# Altium footprint library 排针-排母.PcbLib: 177 footprints (part 11 of 12)
Each footprint in its own frame and in the unit in brackets; x right, y up, seen from the top. Pads: shape width x height; smd on the part's side, far side on the other; paste and mask are expansions set on the pad; w line width, h text height; cw(c..) or ccw(c..) is an arc to the next point about the centre after c.
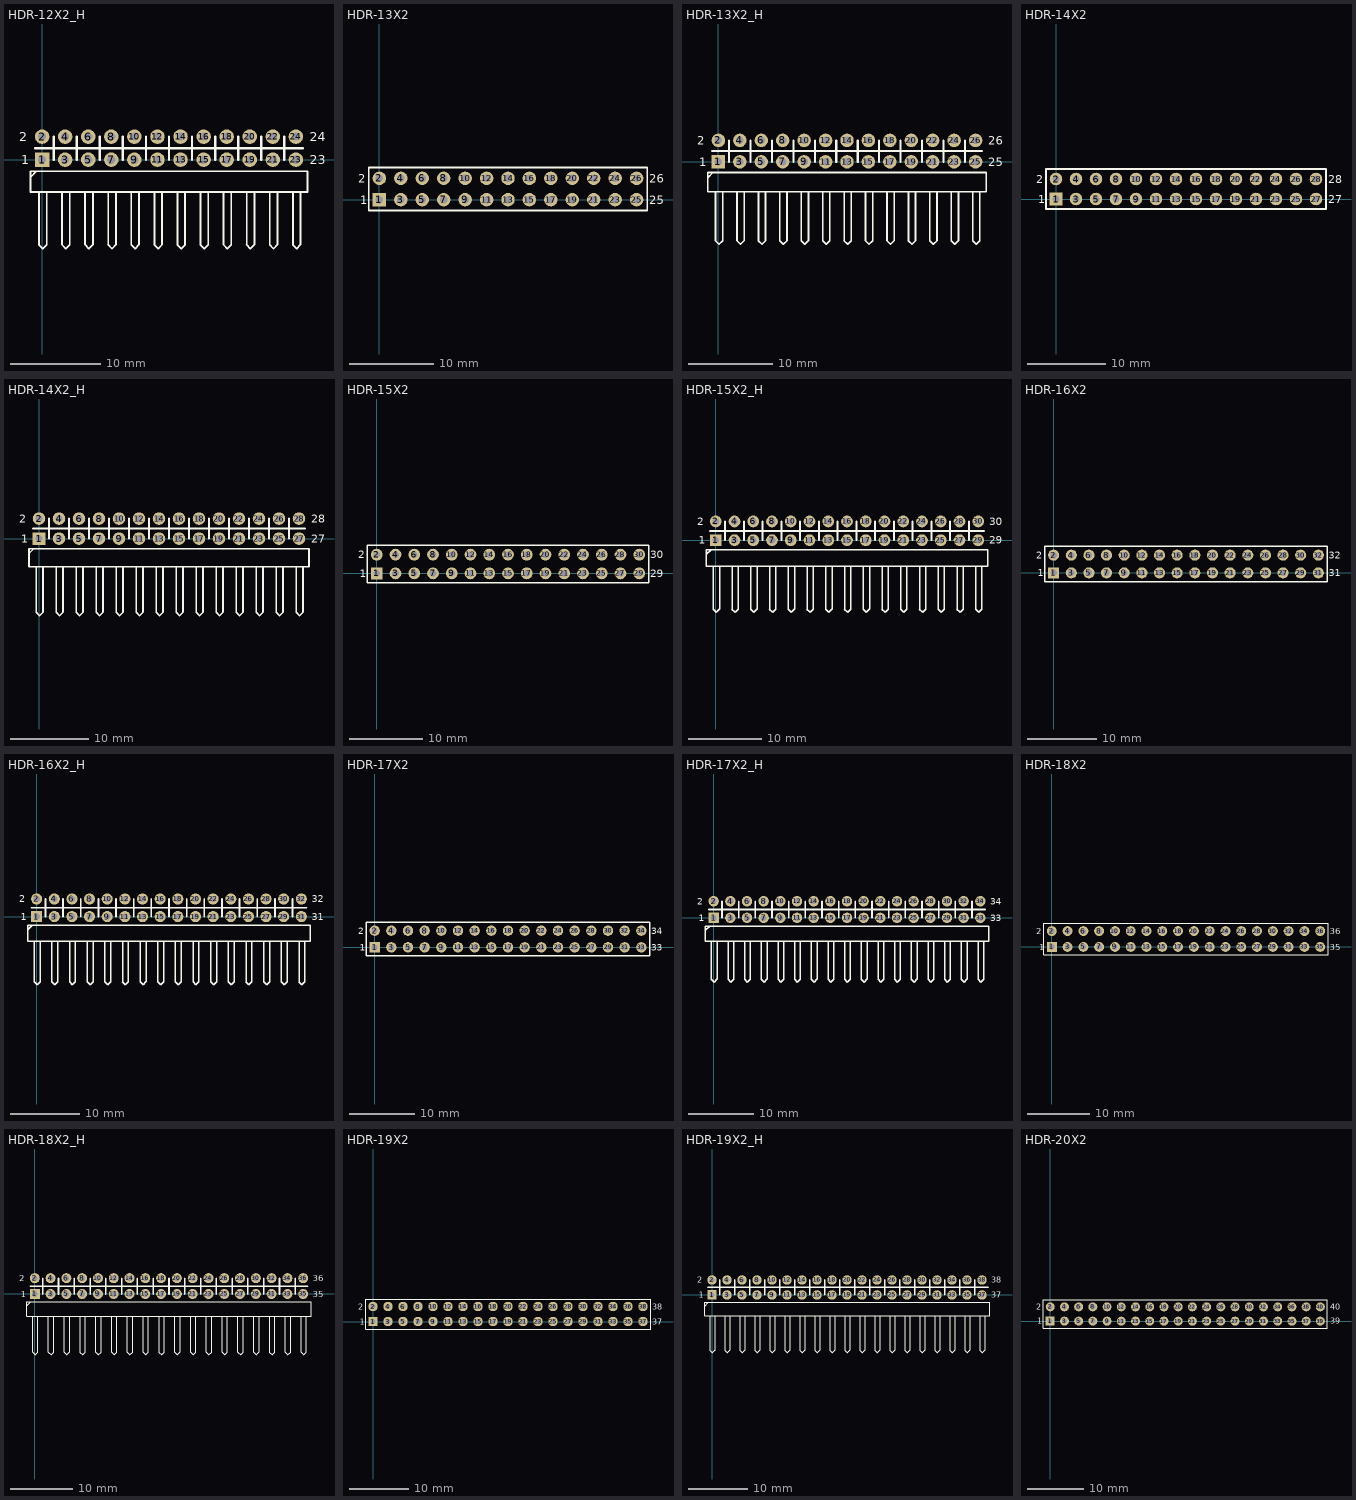
[diagram p10: the footprints below, top view; thin cyan lines are the x and y axes]

## HDR-12X2_H [mm] "双排弯脚排针，12x2脚"
pads (24):
  rect 1.6x1.6 hole 0.9: 1(0,0)
  round 1.6 hole 0.9: 2(0,2.54) 3(2.54,0) 4(2.54,2.54) 5(5.08,0) 6(5.08,2.54) 7(7.62,0) 8(7.62,2.54) 9(10.16,0) 10(10.16,2.54) 11(12.7,0) 12(12.7,2.54) 13(15.24,0) 14(15.24,2.54) 15(17.78,0) 16(17.78,2.54) 17(20.32,0) 18(20.32,2.54) 19(22.86,0) 20(22.86,2.54) 21(25.4,0) 22(25.4,2.54) 23(27.94,0) 24(27.94,2.54)
Top Overlay:
  lines w0.2: -1.27,-1.905 -0.635,-1.27 ; -0.348,-9.364 0.075,-9.787 0.499,-9.364 0.508,-9.355 0.508,-3.556 ; -0.339,-9.364 -0.339,-3.556 ; 2.192,-9.364 2.615,-9.787 3.039,-9.364 ; 2.201,-9.364 2.201,-3.556 ; 3.048,-9.364 3.048,-3.556 ; 4.732,-9.364 5.155,-9.787 5.579,-9.364 ; 4.741,-9.364 4.741,-3.556 ; 5.588,-9.364 5.588,-3.556 ; 7.272,-9.364 7.695,-9.787 8.119,-9.364 ; 7.281,-9.364 7.281,-3.556 ; 8.128,-9.364 8.128,-3.556 ; 9.812,-9.364 10.235,-9.787 10.659,-9.364 ; 9.821,-9.364 9.821,-3.556 ; 10.668,-9.364 10.668,-3.556 ; 12.352,-9.364 12.775,-9.787 13.199,-9.364 ; 12.361,-9.364 12.361,-3.556 ; 13.208,-9.364 13.208,-3.556 ; 14.892,-9.364 15.315,-9.787 15.739,-9.364 ; 14.901,-9.364 14.901,-3.556 ; 15.748,-9.364 15.748,-3.556 ; 17.432,-9.364 17.855,-9.787 18.279,-9.364 ; 17.441,-9.364 17.441,-3.556 ; 18.288,-9.364 18.288,-3.556 ; 19.972,-9.364 20.395,-9.787 20.819,-9.364 ; 19.981,-9.364 19.981,-3.556 ; 20.828,-9.364 20.828,-3.556 ; 22.512,-9.364 22.935,-9.787 23.359,-9.364 ; 22.521,-9.364 22.521,-3.556 ; 23.368,-9.364 23.368,-3.556 ; 25.052,-9.364 25.475,-9.787 25.899,-9.364 ; 25.061,-9.364 25.061,-3.556 ; 25.908,-9.364 25.908,-3.556 ; 27.592,-9.364 28.015,-9.787 28.439,-9.364 ; 27.601,-9.364 27.601,-3.556 ; 28.448,-9.364 28.448,-3.556 ; -1.27,-3.556 29.21,-3.556 29.21,-1.27 -1.27,-1.27 -1.27,-3.556
  lines w0.254: -0.762,1.27 28.702,1.27 ; 1.27,0 1.27,2.54 ; 3.81,0 3.81,2.54 ; 6.35,0 6.35,2.54 ; 8.89,0 8.89,2.54 ; 11.43,0 11.43,2.54 ; 13.97,0 13.97,2.54 ; 16.51,0 16.51,2.54 ; 19.05,0 19.05,2.54 ; 21.59,0 21.59,2.54 ; 24.13,0 24.13,2.54 ; 26.67,0 26.67,2.54
  text "24" at 29.464,2.032 h1.02
  text "23" at 29.464,-0.508 h1.02
  text "2" at -2.54,2.032 h1.02
  text "1" at -2.286,-0.508 h1.02
Bottom Overlay:
  lines w0.254: -0.762,1.27 28.702,1.27 ; 1.27,0 1.27,2.54 ; 3.81,0 3.81,2.54 ; 6.35,0 6.35,2.54 ; 8.89,0 8.89,2.54 ; 11.43,0 11.43,2.54 ; 13.97,0 13.97,2.54 ; 16.51,0 16.51,2.54 ; 19.05,0 19.05,2.54 ; 21.59,0 21.59,2.54 ; 24.13,0 24.13,2.54 ; 26.67,0 26.67,2.54
3D body: height 5.1, standoff -3, extent 8.89,-9.96 11.43,2.89
3D body: height 5.1, standoff -3, extent 3.81,-9.96 6.35,2.89
3D body: height 5.1, standoff -3, extent 6.35,-9.96 8.89,2.89
3D body: height 5.1, standoff -3, extent -1.27,-9.96 1.27,2.89
3D body: height 5.1, standoff -3, extent 1.27,-9.96 3.81,2.89
3D body: height 5.1, standoff -3, extent 21.59,-9.96 24.13,2.89
3D body: height 5.1, standoff -3, extent 16.51,-9.96 19.05,2.89
3D body: height 5.1, standoff -3, extent 19.05,-9.96 21.59,2.89
3D body: height 5.1, standoff -3, extent 11.43,-9.96 13.97,2.89
3D body: height 5.1, standoff -3, extent 13.97,-9.96 16.51,2.89
3D body: height 5.1, standoff -3, extent 24.13,-9.96 26.67,2.89
3D body: height 5.1, standoff -3, extent 26.67,-9.96 29.21,2.89

## HDR-13X2 [mm] "双排排针，13x2脚"
pads (26):
  rect 1.6x1.6 hole 0.9: 1(0,0)
  round 1.6 hole 0.9: 2(0,2.54) 3(2.54,0) 4(2.54,2.54) 5(5.08,0) 6(5.08,2.54) 7(7.62,0) 8(7.62,2.54) 9(10.16,0) 10(10.16,2.54) 11(12.7,0) 12(12.7,2.54) 13(15.24,0) 14(15.24,2.54) 15(17.78,0) 16(17.78,2.54) 17(20.32,0) 18(20.32,2.54) 19(22.86,0) 20(22.86,2.54) 21(25.4,0) 22(25.4,2.54) 23(27.94,0) 24(27.94,2.54) 25(30.48,0) 26(30.48,2.54)
Top Overlay:
  lines w0.2: -1.27,-1.27 31.75,-1.27 31.75,3.81 -1.27,3.81 -1.27,-1.27
  text "26" at 32.004,2.032 h1.02
  text "25" at 32.004,-0.508 h1.02
  text "1" at -2.286,-0.508 h1.02
  text "2" at -2.54,2.032 h1.02
3D body: height 8.5, standoff -3, extent 29.21,-1.27 31.75,3.81
3D body: height 8.5, standoff -3, extent 24.13,-1.27 26.67,3.81
3D body: height 8.5, standoff -3, extent 26.67,-1.27 29.21,3.81
3D body: height 8.5, standoff -3, extent 16.51,-1.27 19.05,3.81
3D body: height 8.5, standoff -3, extent 19.05,-1.27 21.59,3.81
3D body: height 8.5, standoff -3, extent 11.43,-1.27 13.97,3.81
3D body: height 8.5, standoff -3, extent 13.97,-1.27 16.51,3.81
3D body: height 8.5, standoff -3, extent 21.59,-1.27 24.13,3.81
3D body: height 8.5, standoff -3, extent 3.81,-1.27 6.35,3.81
3D body: height 8.5, standoff -3, extent 6.35,-1.27 8.89,3.81
3D body: height 8.5, standoff -3, extent -1.27,-1.27 1.27,3.81
3D body: height 8.5, standoff -3, extent 1.27,-1.27 3.81,3.81
3D body: height 8.5, standoff -3, extent 8.89,-1.27 11.43,3.81

## HDR-13X2_H [mm] "双排弯脚排针，13x2脚"
pads (26):
  rect 1.6x1.6 hole 0.9: 1(0,0)
  round 1.6 hole 0.9: 2(0,2.54) 3(2.54,0) 4(2.54,2.54) 5(5.08,0) 6(5.08,2.54) 7(7.62,0) 8(7.62,2.54) 9(10.16,0) 10(10.16,2.54) 11(12.7,0) 12(12.7,2.54) 13(15.24,0) 14(15.24,2.54) 15(17.78,0) 16(17.78,2.54) 17(20.32,0) 18(20.32,2.54) 19(22.86,0) 20(22.86,2.54) 21(25.4,0) 22(25.4,2.54) 23(27.94,0) 24(27.94,2.54) 25(30.48,0) 26(30.48,2.54)
Top Overlay:
  lines w0.2: -1.27,-1.905 -0.635,-1.27 ; -0.348,-9.364 0.075,-9.787 0.499,-9.364 0.508,-9.355 0.508,-3.556 ; -0.339,-9.364 -0.339,-3.556 ; 2.192,-9.364 2.615,-9.787 3.039,-9.364 ; 2.201,-9.364 2.201,-3.556 ; 3.048,-9.364 3.048,-3.556 ; 4.732,-9.364 5.155,-9.787 5.579,-9.364 ; 4.741,-9.364 4.741,-3.556 ; 5.588,-9.364 5.588,-3.556 ; 7.272,-9.364 7.695,-9.787 8.119,-9.364 ; 7.281,-9.364 7.281,-3.556 ; 8.128,-9.364 8.128,-3.556 ; 9.812,-9.364 10.235,-9.787 10.659,-9.364 ; 9.821,-9.364 9.821,-3.556 ; 10.668,-9.364 10.668,-3.556 ; 12.352,-9.364 12.775,-9.787 13.199,-9.364 ; 12.361,-9.364 12.361,-3.556 ; 13.208,-9.364 13.208,-3.556 ; 14.892,-9.364 15.315,-9.787 15.739,-9.364 ; 14.901,-9.364 14.901,-3.556 ; 15.748,-9.364 15.748,-3.556 ; 17.432,-9.364 17.855,-9.787 18.279,-9.364 ; 17.441,-9.364 17.441,-3.556 ; 18.288,-9.364 18.288,-3.556 ; 19.972,-9.364 20.395,-9.787 20.819,-9.364 ; 19.981,-9.364 19.981,-3.556 ; 20.828,-9.364 20.828,-3.556 ; 22.512,-9.364 22.935,-9.787 23.359,-9.364 ; 22.521,-9.364 22.521,-3.556 ; 23.368,-9.364 23.368,-3.556 ; 25.052,-9.364 25.475,-9.787 25.899,-9.364 ; 25.061,-9.364 25.061,-3.556 ; 25.908,-9.364 25.908,-3.556 ; 27.592,-9.364 28.015,-9.787 28.439,-9.364 ; 27.601,-9.364 27.601,-3.556 ; 28.448,-9.364 28.448,-3.556 ; 30.132,-9.364 30.555,-9.787 30.979,-9.364 ; 30.141,-9.364 30.141,-3.556 ; 30.988,-9.364 30.988,-3.556 ; -1.27,-3.556 31.75,-3.556 31.75,-1.27 -1.27,-1.27 -1.27,-3.556
  lines w0.254: -0.762,1.27 31.242,1.27 ; 1.27,0 1.27,2.54 ; 3.81,0 3.81,2.54 ; 6.35,0 6.35,2.54 ; 8.89,0 8.89,2.54 ; 11.43,0 11.43,2.54 ; 13.97,0 13.97,2.54 ; 16.51,0 16.51,2.54 ; 19.05,0 19.05,2.54 ; 21.59,0 21.59,2.54 ; 24.13,0 24.13,2.54 ; 26.67,0 26.67,2.54 ; 29.21,0 29.21,2.54
  text "26" at 32.004,2.032 h1.02
  text "25" at 32.004,-0.508 h1.02
  text "1" at -2.286,-0.508 h1.02
  text "2" at -2.54,2.032 h1.02
Bottom Overlay:
  lines w0.254: -0.762,1.27 31.242,1.27 ; 1.27,0 1.27,2.54 ; 3.81,0 3.81,2.54 ; 6.35,0 6.35,2.54 ; 8.89,0 8.89,2.54 ; 11.43,0 11.43,2.54 ; 13.97,0 13.97,2.54 ; 16.51,0 16.51,2.54 ; 19.05,0 19.05,2.54 ; 21.59,0 21.59,2.54 ; 24.13,0 24.13,2.54 ; 26.67,0 26.67,2.54 ; 29.21,0 29.21,2.54
3D body: height 5.1, standoff -3, extent 8.89,-9.96 11.43,2.89
3D body: height 5.1, standoff -3, extent 3.81,-9.96 6.35,2.89
3D body: height 5.1, standoff -3, extent 6.35,-9.96 8.89,2.89
3D body: height 5.1, standoff -3, extent -1.27,-9.96 1.27,2.89
3D body: height 5.1, standoff -3, extent 1.27,-9.96 3.81,2.89
3D body: height 5.1, standoff -3, extent 21.59,-9.96 24.13,2.89
3D body: height 5.1, standoff -3, extent 16.51,-9.96 19.05,2.89
3D body: height 5.1, standoff -3, extent 19.05,-9.96 21.59,2.89
3D body: height 5.1, standoff -3, extent 11.43,-9.96 13.97,2.89
3D body: height 5.1, standoff -3, extent 13.97,-9.96 16.51,2.89
3D body: height 5.1, standoff -3, extent 29.21,-9.96 31.75,2.89
3D body: height 5.1, standoff -3, extent 24.13,-9.96 26.67,2.89
3D body: height 5.1, standoff -3, extent 26.67,-9.96 29.21,2.89

## HDR-14X2 [mm] "双排排针，14x2脚"
pads (28):
  rect 1.6x1.6 hole 0.9: 1(0,0)
  round 1.6 hole 0.9: 2(0,2.54) 3(2.54,0) 4(2.54,2.54) 5(5.08,0) 6(5.08,2.54) 7(7.62,0) 8(7.62,2.54) 9(10.16,0) 10(10.16,2.54) 11(12.7,0) 12(12.7,2.54) 13(15.24,0) 14(15.24,2.54) 15(17.78,0) 16(17.78,2.54) 17(20.32,0) 18(20.32,2.54) 19(22.86,0) 20(22.86,2.54) 21(25.4,0) 22(25.4,2.54) 23(27.94,0) 24(27.94,2.54) 25(30.48,0) 26(30.48,2.54) 27(33.02,0) 28(33.02,2.54)
Top Overlay:
  lines w0.2: -1.27,-1.27 -1.27,3.81 34.29,3.81 34.29,-1.27 -1.27,-1.27
  text "2" at -2.54,2.032 h1.02
  text "1" at -2.286,-0.508 h1.02
  text "27" at 34.544,-0.508 h1.02
  text "28" at 34.544,2.032 h1.02
3D body: height 8.5, standoff -3, extent 8.89,-1.27 11.43,3.81
3D body: height 8.5, standoff -3, extent 1.27,-1.27 3.81,3.81
3D body: height 8.5, standoff -3, extent -1.27,-1.27 1.27,3.81
3D body: height 8.5, standoff -3, extent 6.35,-1.27 8.89,3.81
3D body: height 8.5, standoff -3, extent 3.81,-1.27 6.35,3.81
3D body: height 8.5, standoff -3, extent 21.59,-1.27 24.13,3.81
3D body: height 8.5, standoff -3, extent 13.97,-1.27 16.51,3.81
3D body: height 8.5, standoff -3, extent 11.43,-1.27 13.97,3.81
3D body: height 8.5, standoff -3, extent 19.05,-1.27 21.59,3.81
3D body: height 8.5, standoff -3, extent 16.51,-1.27 19.05,3.81
3D body: height 8.5, standoff -3, extent 26.67,-1.27 29.21,3.81
3D body: height 8.5, standoff -3, extent 24.13,-1.27 26.67,3.81
3D body: height 8.5, standoff -3, extent 31.75,-1.27 34.29,3.81
3D body: height 8.5, standoff -3, extent 29.21,-1.27 31.75,3.81

## HDR-14X2_H [mm] "双排弯脚排针，14x2脚"
pads (28):
  rect 1.6x1.6 hole 0.9: 1(0,0)
  round 1.6 hole 0.9: 2(0,2.54) 3(2.54,0) 4(2.54,2.54) 5(5.08,0) 6(5.08,2.54) 7(7.62,0) 8(7.62,2.54) 9(10.16,0) 10(10.16,2.54) 11(12.7,0) 12(12.7,2.54) 13(15.24,0) 14(15.24,2.54) 15(17.78,0) 16(17.78,2.54) 17(20.32,0) 18(20.32,2.54) 19(22.86,0) 20(22.86,2.54) 21(25.4,0) 22(25.4,2.54) 23(27.94,0) 24(27.94,2.54) 25(30.48,0) 26(30.48,2.54) 27(33.02,0) 28(33.02,2.54)
Top Overlay:
  lines w0.2: -1.27,-1.905 -0.635,-1.27 ; -0.348,-9.364 0.075,-9.787 0.499,-9.364 0.508,-9.355 0.508,-3.556 ; -0.339,-9.364 -0.339,-3.556 ; 2.192,-9.364 2.615,-9.787 3.039,-9.364 ; 2.201,-9.364 2.201,-3.556 ; 3.048,-9.364 3.048,-3.556 ; 4.732,-9.364 5.155,-9.787 5.579,-9.364 ; 4.741,-9.364 4.741,-3.556 ; 5.588,-9.364 5.588,-3.556 ; 7.272,-9.364 7.695,-9.787 8.119,-9.364 ; 7.281,-9.364 7.281,-3.556 ; 8.128,-9.364 8.128,-3.556 ; 9.812,-9.364 10.235,-9.787 10.659,-9.364 ; 9.821,-9.364 9.821,-3.556 ; 10.668,-9.364 10.668,-3.556 ; 12.352,-9.364 12.775,-9.787 13.199,-9.364 ; 12.361,-9.364 12.361,-3.556 ; 13.208,-9.364 13.208,-3.556 ; 14.892,-9.364 15.315,-9.787 15.739,-9.364 ; 14.901,-9.364 14.901,-3.556 ; 15.748,-9.364 15.748,-3.556 ; 17.432,-9.364 17.855,-9.787 18.279,-9.364 ; 17.441,-9.364 17.441,-3.556 ; 18.288,-9.364 18.288,-3.556 ; 19.972,-9.364 20.395,-9.787 20.819,-9.364 ; 19.981,-9.364 19.981,-3.556 ; 20.828,-9.364 20.828,-3.556 ; 22.512,-9.364 22.935,-9.787 23.359,-9.364 ; 22.521,-9.364 22.521,-3.556 ; 23.368,-9.364 23.368,-3.556 ; 25.052,-9.364 25.475,-9.787 25.899,-9.364 ; 25.061,-9.364 25.061,-3.556 ; 25.908,-9.364 25.908,-3.556 ; 27.592,-9.364 28.015,-9.787 28.439,-9.364 ; 27.601,-9.364 27.601,-3.556 ; 28.448,-9.364 28.448,-3.556 ; 30.132,-9.364 30.555,-9.787 30.979,-9.364 ; 30.141,-9.364 30.141,-3.556 ; 30.988,-9.364 30.988,-3.556 ; 32.672,-9.364 33.095,-9.787 33.519,-9.364 ; 32.681,-9.364 32.681,-3.556 ; 33.528,-9.364 33.528,-3.556 ; -1.27,-3.556 -1.27,-1.27 34.29,-1.27 34.29,-3.556 -1.27,-3.556
  lines w0.254: -0.762,1.27 33.782,1.27 ; 1.27,0 1.27,2.54 ; 3.81,0 3.81,2.54 ; 6.35,0 6.35,2.54 ; 8.89,0 8.89,2.54 ; 11.43,0 11.43,2.54 ; 13.97,0 13.97,2.54 ; 16.51,0 16.51,2.54 ; 19.05,0 19.05,2.54 ; 21.59,0 21.59,2.54 ; 24.13,0 24.13,2.54 ; 26.67,0 26.67,2.54 ; 29.21,0 29.21,2.54 ; 31.75,0 31.75,2.54
  text "28" at 34.544,2.032 h1.02
  text "27" at 34.544,-0.508 h1.02
  text "1" at -2.286,-0.508 h1.02
  text "2" at -2.54,2.032 h1.02
Bottom Overlay:
  lines w0.254: -0.762,1.27 33.782,1.27 ; 1.27,0 1.27,2.54 ; 3.81,0 3.81,2.54 ; 6.35,0 6.35,2.54 ; 8.89,0 8.89,2.54 ; 11.43,0 11.43,2.54 ; 13.97,0 13.97,2.54 ; 16.51,0 16.51,2.54 ; 19.05,0 19.05,2.54 ; 21.59,0 21.59,2.54 ; 24.13,0 24.13,2.54 ; 26.67,0 26.67,2.54 ; 29.21,0 29.21,2.54 ; 31.75,0 31.75,2.54
3D body: height 5.1, standoff -3, extent 8.89,-9.96 11.43,2.89
3D body: height 5.1, standoff -3, extent 3.81,-9.96 6.35,2.89
3D body: height 5.1, standoff -3, extent 6.35,-9.96 8.89,2.89
3D body: height 5.1, standoff -3, extent -1.27,-9.96 1.27,2.89
3D body: height 5.1, standoff -3, extent 1.27,-9.96 3.81,2.89
3D body: height 5.1, standoff -3, extent 21.59,-9.96 24.13,2.89
3D body: height 5.1, standoff -3, extent 16.51,-9.96 19.05,2.89
3D body: height 5.1, standoff -3, extent 19.05,-9.96 21.59,2.89
3D body: height 5.1, standoff -3, extent 11.43,-9.96 13.97,2.89
3D body: height 5.1, standoff -3, extent 13.97,-9.96 16.51,2.89
3D body: height 5.1, standoff -3, extent 29.21,-9.96 31.75,2.89
3D body: height 5.1, standoff -3, extent 31.75,-9.96 34.29,2.89
3D body: height 5.1, standoff -3, extent 24.13,-9.96 26.67,2.89
3D body: height 5.1, standoff -3, extent 26.67,-9.96 29.21,2.89

## HDR-15X2 [mm] "双排排针，15x2脚"
pads (30):
  rect 1.6x1.6 hole 0.9: 1(0,0)
  round 1.6 hole 0.9: 2(0,2.54) 3(2.54,0) 4(2.54,2.54) 5(5.08,0) 6(5.08,2.54) 7(7.62,0) 8(7.62,2.54) 9(10.16,0) 10(10.16,2.54) 11(12.7,0) 12(12.7,2.54) 13(15.24,0) 14(15.24,2.54) 15(17.78,0) 16(17.78,2.54) 17(20.32,0) 18(20.32,2.54) 19(22.86,0) 20(22.86,2.54) 21(25.4,0) 22(25.4,2.54) 23(27.94,0) 24(27.94,2.54) 25(30.48,0) 26(30.48,2.54) 27(33.02,0) 28(33.02,2.54) 29(35.56,0) 30(35.56,2.54)
Top Overlay:
  lines w0.2: -1.27,-1.27 -1.27,3.81 36.83,3.81 36.83,-1.27 -1.27,-1.27
  text "30" at 37.084,2.032 h1.02
  text "29" at 37.084,-0.508 h1.02
  text "2" at -2.54,2.032 h1.02
  text "1" at -2.286,-0.508 h1.02
3D body: height 8.5, standoff -3, extent 29.21,-1.27 31.75,3.81
3D body: height 8.5, standoff -3, extent 31.75,-1.27 34.29,3.81
3D body: height 8.5, standoff -3, extent 24.13,-1.27 26.67,3.81
3D body: height 8.5, standoff -3, extent 26.67,-1.27 29.21,3.81
3D body: height 8.5, standoff -3, extent 34.29,-1.27 36.83,3.81
3D body: height 8.5, standoff -3, extent 16.51,-1.27 19.05,3.81
3D body: height 8.5, standoff -3, extent 19.05,-1.27 21.59,3.81
3D body: height 8.5, standoff -3, extent 11.43,-1.27 13.97,3.81
3D body: height 8.5, standoff -3, extent 13.97,-1.27 16.51,3.81
3D body: height 8.5, standoff -3, extent 21.59,-1.27 24.13,3.81
3D body: height 8.5, standoff -3, extent 3.81,-1.27 6.35,3.81
3D body: height 8.5, standoff -3, extent 6.35,-1.27 8.89,3.81
3D body: height 8.5, standoff -3, extent -1.27,-1.27 1.27,3.81
3D body: height 8.5, standoff -3, extent 1.27,-1.27 3.81,3.81
3D body: height 8.5, standoff -3, extent 8.89,-1.27 11.43,3.81

## HDR-15X2_H [mm] "双排弯脚排针，15x2脚"
pads (30):
  rect 1.6x1.6 hole 0.9: 1(0,0)
  round 1.6 hole 0.9: 2(0,2.54) 3(2.54,0) 4(2.54,2.54) 5(5.08,0) 6(5.08,2.54) 7(7.62,0) 8(7.62,2.54) 9(10.16,0) 10(10.16,2.54) 11(12.7,0) 12(12.7,2.54) 13(15.24,0) 14(15.24,2.54) 15(17.78,0) 16(17.78,2.54) 17(20.32,0) 18(20.32,2.54) 19(22.86,0) 20(22.86,2.54) 21(25.4,0) 22(25.4,2.54) 23(27.94,0) 24(27.94,2.54) 25(30.48,0) 26(30.48,2.54) 27(33.02,0) 28(33.02,2.54) 29(35.56,0) 30(35.56,2.54)
Top Overlay:
  lines w0.2: -1.27,-1.905 -0.635,-1.27 ; -0.348,-9.364 0.075,-9.787 0.499,-9.364 0.508,-9.355 0.508,-3.556 ; -0.339,-9.364 -0.339,-3.556 ; 2.192,-9.364 2.615,-9.787 3.039,-9.364 ; 2.201,-9.364 2.201,-3.556 ; 3.048,-9.364 3.048,-3.556 ; 4.732,-9.364 5.155,-9.787 5.579,-9.364 ; 4.741,-9.364 4.741,-3.556 ; 5.588,-9.364 5.588,-3.556 ; 7.272,-9.364 7.695,-9.787 8.119,-9.364 ; 7.281,-9.364 7.281,-3.556 ; 8.128,-9.364 8.128,-3.556 ; 9.812,-9.364 10.235,-9.787 10.659,-9.364 ; 9.821,-9.364 9.821,-3.556 ; 10.668,-9.364 10.668,-3.556 ; 12.352,-9.364 12.775,-9.787 13.199,-9.364 ; 12.361,-9.364 12.361,-3.556 ; 13.208,-9.364 13.208,-3.556 ; 14.892,-9.364 15.315,-9.787 15.739,-9.364 ; 14.901,-9.364 14.901,-3.556 ; 15.748,-9.364 15.748,-3.556 ; 17.432,-9.364 17.855,-9.787 18.279,-9.364 ; 17.441,-9.364 17.441,-3.556 ; 18.288,-9.364 18.288,-3.556 ; 19.972,-9.364 20.395,-9.787 20.819,-9.364 ; 19.981,-9.364 19.981,-3.556 ; 20.828,-9.364 20.828,-3.556 ; 22.512,-9.364 22.935,-9.787 23.359,-9.364 ; 22.521,-9.364 22.521,-3.556 ; 23.368,-9.364 23.368,-3.556 ; 25.052,-9.364 25.475,-9.787 25.899,-9.364 ; 25.061,-9.364 25.061,-3.556 ; 25.908,-9.364 25.908,-3.556 ; 27.592,-9.364 28.015,-9.787 28.439,-9.364 ; 27.601,-9.364 27.601,-3.556 ; 28.448,-9.364 28.448,-3.556 ; 30.132,-9.364 30.555,-9.787 30.979,-9.364 ; 30.141,-9.364 30.141,-3.556 ; 30.988,-9.364 30.988,-3.556 ; 32.672,-9.364 33.095,-9.787 33.519,-9.364 ; 32.681,-9.364 32.681,-3.556 ; 33.528,-9.364 33.528,-3.556 ; 35.212,-9.364 35.635,-9.787 36.059,-9.364 ; 35.221,-9.364 35.221,-3.556 ; 36.068,-9.364 36.068,-3.556 ; -1.27,-3.556 -1.27,-1.27 36.83,-1.27 36.83,-3.556 -1.27,-3.556
  lines w0.254: -0.762,1.27 36.322,1.27 ; 1.27,0 1.27,2.54 ; 3.81,0 3.81,2.54 ; 6.35,0 6.35,2.54 ; 8.89,0 8.89,2.54 ; 11.43,0 11.43,2.54 ; 13.97,0 13.97,2.54 ; 16.51,0 16.51,2.54 ; 19.05,0 19.05,2.54 ; 21.59,0 21.59,2.54 ; 24.13,0 24.13,2.54 ; 26.67,0 26.67,2.54 ; 29.21,0 29.21,2.54 ; 31.75,0 31.75,2.54 ; 34.29,0 34.29,2.54 34.29,0
  text "1" at -2.286,-0.508 h1.02
  text "2" at -2.54,2.032 h1.02
  text "29" at 37.084,-0.508 h1.02
  text "30" at 37.084,2.032 h1.02
Bottom Overlay:
  lines w0.254: -0.762,1.27 36.322,1.27 ; 1.27,0 1.27,2.54 ; 3.81,0 3.81,2.54 ; 6.35,0 6.35,2.54 ; 8.89,0 8.89,2.54 ; 11.43,0 11.43,2.54 ; 13.97,0 13.97,2.54 ; 16.51,0 16.51,2.54 ; 19.05,0 19.05,2.54 ; 21.59,0 21.59,2.54 ; 24.13,0 24.13,2.54 ; 26.67,0 26.67,2.54 ; 29.21,0 29.21,2.54 ; 31.75,0 31.75,2.54 ; 34.29,0 34.29,2.54 34.29,0
3D body: height 5.1, standoff -3, extent 8.89,-9.96 11.43,2.89
3D body: height 5.1, standoff -3, extent 3.81,-9.96 6.35,2.89
3D body: height 5.1, standoff -3, extent 6.35,-9.96 8.89,2.89
3D body: height 5.1, standoff -3, extent -1.27,-9.96 1.27,2.89
3D body: height 5.1, standoff -3, extent 1.27,-9.96 3.81,2.89
3D body: height 5.1, standoff -3, extent 21.59,-9.96 24.13,2.89
3D body: height 5.1, standoff -3, extent 16.51,-9.96 19.05,2.89
3D body: height 5.1, standoff -3, extent 19.05,-9.96 21.59,2.89
3D body: height 5.1, standoff -3, extent 11.43,-9.96 13.97,2.89
3D body: height 5.1, standoff -3, extent 13.97,-9.96 16.51,2.89
3D body: height 5.1, standoff -3, extent 34.29,-9.96 36.83,2.89
3D body: height 5.1, standoff -3, extent 29.21,-9.96 31.75,2.89
3D body: height 5.1, standoff -3, extent 31.75,-9.96 34.29,2.89
3D body: height 5.1, standoff -3, extent 24.13,-9.96 26.67,2.89
3D body: height 5.1, standoff -3, extent 26.67,-9.96 29.21,2.89

## HDR-16X2 [mm] "双排排针，16x2脚"
pads (32):
  rect 1.6x1.6 hole 0.9: 1(0,0)
  round 1.6 hole 0.9: 2(0,2.54) 3(2.54,0) 4(2.54,2.54) 5(5.08,0) 6(5.08,2.54) 7(7.62,0) 8(7.62,2.54) 9(10.16,0) 10(10.16,2.54) 11(12.7,0) 12(12.7,2.54) 13(15.24,0) 14(15.24,2.54) 15(17.78,0) 16(17.78,2.54) 17(20.32,0) 18(20.32,2.54) 19(22.86,0) 20(22.86,2.54) 21(25.4,0) 22(25.4,2.54) 23(27.94,0) 24(27.94,2.54) 25(30.48,0) 26(30.48,2.54) 27(33.02,0) 28(33.02,2.54) 29(35.56,0) 30(35.56,2.54) 31(38.1,0) 32(38.1,2.54)
Top Overlay:
  lines w0.2: -1.27,-1.27 -1.27,3.81 39.37,3.81 39.37,-1.27 -1.27,-1.27
  text "32" at 39.624,2.032 h1.02
  text "31" at 39.624,-0.508 h1.02
  text "1" at -2.286,-0.508 h1.02
  text "2" at -2.54,2.032 h1.02
3D body: height 8.5, standoff -3, extent 36.83,-1.27 39.37,3.81
3D body: height 8.5, standoff -3, extent 29.21,-1.27 31.75,3.81
3D body: height 8.5, standoff -3, extent 31.75,-1.27 34.29,3.81
3D body: height 8.5, standoff -3, extent 24.13,-1.27 26.67,3.81
3D body: height 8.5, standoff -3, extent 26.67,-1.27 29.21,3.81
3D body: height 8.5, standoff -3, extent 34.29,-1.27 36.83,3.81
3D body: height 8.5, standoff -3, extent 16.51,-1.27 19.05,3.81
3D body: height 8.5, standoff -3, extent 19.05,-1.27 21.59,3.81
3D body: height 8.5, standoff -3, extent 11.43,-1.27 13.97,3.81
3D body: height 8.5, standoff -3, extent 13.97,-1.27 16.51,3.81
3D body: height 8.5, standoff -3, extent 21.59,-1.27 24.13,3.81
3D body: height 8.5, standoff -3, extent 3.81,-1.27 6.35,3.81
3D body: height 8.5, standoff -3, extent 6.35,-1.27 8.89,3.81
3D body: height 8.5, standoff -3, extent -1.27,-1.27 1.27,3.81
3D body: height 8.5, standoff -3, extent 1.27,-1.27 3.81,3.81
3D body: height 8.5, standoff -3, extent 8.89,-1.27 11.43,3.81

## HDR-16X2_H [mm] "双排弯脚排针，16x2脚"
pads (32):
  rect 1.6x1.6 hole 0.9: 1(0,0)
  round 1.6 hole 0.9: 2(0,2.54) 3(2.54,0) 4(2.54,2.54) 5(5.08,0) 6(5.08,2.54) 7(7.62,0) 8(7.62,2.54) 9(10.16,0) 10(10.16,2.54) 11(12.7,0) 12(12.7,2.54) 13(15.24,0) 14(15.24,2.54) 15(17.78,0) 16(17.78,2.54) 17(20.32,0) 18(20.32,2.54) 19(22.86,0) 20(22.86,2.54) 21(25.4,0) 22(25.4,2.54) 23(27.94,0) 24(27.94,2.54) 25(30.48,0) 26(30.48,2.54) 27(33.02,0) 28(33.02,2.54) 29(35.56,0) 30(35.56,2.54) 31(38.1,0) 32(38.1,2.54)
Top Overlay:
  lines w0.2: -1.27,-1.905 -0.635,-1.27 ; -0.348,-9.364 0.075,-9.787 0.499,-9.364 0.508,-9.355 0.508,-3.556 ; -0.339,-9.364 -0.339,-3.556 ; 2.192,-9.364 2.615,-9.787 3.039,-9.364 ; 2.201,-9.364 2.201,-3.556 ; 3.048,-9.364 3.048,-3.556 ; 4.732,-9.364 5.155,-9.787 5.579,-9.364 ; 4.741,-9.364 4.741,-3.556 ; 5.588,-9.364 5.588,-3.556 ; 7.272,-9.364 7.695,-9.787 8.119,-9.364 ; 7.281,-9.364 7.281,-3.556 ; 8.128,-9.364 8.128,-3.556 ; 9.812,-9.364 10.235,-9.787 10.659,-9.364 ; 9.821,-9.364 9.821,-3.556 ; 10.668,-9.364 10.668,-3.556 ; 12.352,-9.364 12.775,-9.787 13.199,-9.364 ; 12.361,-9.364 12.361,-3.556 ; 13.208,-9.364 13.208,-3.556 ; 14.892,-9.364 15.315,-9.787 15.739,-9.364 ; 14.901,-9.364 14.901,-3.556 ; 15.748,-9.364 15.748,-3.556 ; 17.432,-9.364 17.855,-9.787 18.279,-9.364 ; 17.441,-9.364 17.441,-3.556 ; 18.288,-9.364 18.288,-3.556 ; 19.972,-9.364 20.395,-9.787 20.819,-9.364 ; 19.981,-9.364 19.981,-3.556 ; 20.828,-9.364 20.828,-3.556 ; 22.512,-9.364 22.935,-9.787 23.359,-9.364 ; 22.521,-9.364 22.521,-3.556 ; 23.368,-9.364 23.368,-3.556 ; 25.052,-9.364 25.475,-9.787 25.899,-9.364 ; 25.061,-9.364 25.061,-3.556 ; 25.908,-9.364 25.908,-3.556 ; 27.592,-9.364 28.015,-9.787 28.439,-9.364 ; 27.601,-9.364 27.601,-3.556 ; 28.448,-9.364 28.448,-3.556 ; 30.132,-9.364 30.555,-9.787 30.979,-9.364 ; 30.141,-9.364 30.141,-3.556 ; 30.988,-9.364 30.988,-3.556 ; 32.672,-9.364 33.095,-9.787 33.519,-9.364 ; 32.681,-9.364 32.681,-3.556 ; 33.528,-9.364 33.528,-3.556 ; 35.212,-9.364 35.635,-9.787 36.059,-9.364 ; 35.221,-9.364 35.221,-3.556 ; 36.068,-9.364 36.068,-3.556 ; 37.752,-9.364 38.175,-9.787 38.599,-9.364 ; 37.761,-9.364 37.761,-3.556 ; 38.608,-9.364 38.608,-3.556 ; -1.27,-3.556 -1.27,-1.27 39.37,-1.27 39.37,-3.556 -1.27,-3.556
  lines w0.254: -0.762,1.27 38.862,1.27 ; 1.27,0 1.27,2.54 ; 3.81,0 3.81,2.54 ; 6.35,0 6.35,2.54 ; 8.89,0 8.89,2.54 ; 11.43,0 11.43,2.54 ; 13.97,0 13.97,2.54 ; 16.51,0 16.51,2.54 ; 19.05,0 19.05,2.54 ; 21.59,0 21.59,2.54 ; 24.13,0 24.13,2.54 ; 26.67,0 26.67,2.54 ; 29.21,0 29.21,2.54 ; 31.75,0 31.75,2.54 ; 36.83,0 36.83,2.54 ; 34.29,0 34.29,2.54 34.29,0
  text "32" at 39.624,2.032 h1.02
  text "31" at 39.624,-0.508 h1.02
  text "1" at -2.286,-0.508 h1.02
  text "2" at -2.54,2.032 h1.02
Bottom Overlay:
  lines w0.254: -0.762,1.27 38.862,1.27 ; 1.27,0 1.27,2.54 ; 3.81,0 3.81,2.54 ; 6.35,0 6.35,2.54 ; 8.89,0 8.89,2.54 ; 11.43,0 11.43,2.54 ; 13.97,0 13.97,2.54 ; 16.51,0 16.51,2.54 ; 19.05,0 19.05,2.54 ; 21.59,0 21.59,2.54 ; 24.13,0 24.13,2.54 ; 26.67,0 26.67,2.54 ; 29.21,0 29.21,2.54 ; 31.75,0 31.75,2.54 ; 36.83,0 36.83,2.54 ; 34.29,0 34.29,2.54 34.29,0
3D body: height 5.1, standoff -3, extent 8.89,-9.96 11.43,2.89
3D body: height 5.1, standoff -3, extent 3.81,-9.96 6.35,2.89
3D body: height 5.1, standoff -3, extent 6.35,-9.96 8.89,2.89
3D body: height 5.1, standoff -3, extent -1.27,-9.96 1.27,2.89
3D body: height 5.1, standoff -3, extent 1.27,-9.96 3.81,2.89
3D body: height 5.1, standoff -3, extent 21.59,-9.96 24.13,2.89
3D body: height 5.1, standoff -3, extent 16.51,-9.96 19.05,2.89
3D body: height 5.1, standoff -3, extent 19.05,-9.96 21.59,2.89
3D body: height 5.1, standoff -3, extent 11.43,-9.96 13.97,2.89
3D body: height 5.1, standoff -3, extent 13.97,-9.96 16.51,2.89
3D body: height 5.1, standoff -3, extent 34.29,-9.96 36.83,2.89
3D body: height 5.1, standoff -3, extent 29.21,-9.96 31.75,2.89
3D body: height 5.1, standoff -3, extent 31.75,-9.96 34.29,2.89
3D body: height 5.1, standoff -3, extent 24.13,-9.96 26.67,2.89
3D body: height 5.1, standoff -3, extent 26.67,-9.96 29.21,2.89
3D body: height 5.1, standoff -3, extent 36.83,-9.96 39.37,2.89

## HDR-17X2 [mm] "双排排针，17x2脚"
pads (34):
  rect 1.6x1.6 hole 0.9: 1(0,0)
  round 1.6 hole 0.9: 2(0,2.54) 3(2.54,0) 4(2.54,2.54) 5(5.08,0) 6(5.08,2.54) 7(7.62,0) 8(7.62,2.54) 9(10.16,0) 10(10.16,2.54) 11(12.7,0) 12(12.7,2.54) 13(15.24,0) 14(15.24,2.54) 15(17.78,0) 16(17.78,2.54) 17(20.32,0) 18(20.32,2.54) 19(22.86,0) 20(22.86,2.54) 21(25.4,0) 22(25.4,2.54) 23(27.94,0) 24(27.94,2.54) 25(30.48,0) 26(30.48,2.54) 27(33.02,0) 28(33.02,2.54) 29(35.56,0) 30(35.56,2.54) 31(38.1,0) 32(38.1,2.54) 33(40.64,0) 34(40.64,2.54)
Top Overlay:
  lines w0.2: -1.27,-1.27 41.91,-1.27 41.91,3.81 -1.27,3.81 -1.27,-1.27
  text "34" at 42.164,2.032 h1.02
  text "33" at 42.164,-0.508 h1.02
  text "1" at -2.286,-0.508 h1.02
  text "2" at -2.54,2.032 h1.02
3D body: height 8.5, standoff -3, extent 8.89,-1.27 11.43,3.81
3D body: height 8.5, standoff -3, extent 1.27,-1.27 3.81,3.81
3D body: height 8.5, standoff -3, extent -1.27,-1.27 1.27,3.81
3D body: height 8.5, standoff -3, extent 6.35,-1.27 8.89,3.81
3D body: height 8.5, standoff -3, extent 3.81,-1.27 6.35,3.81
3D body: height 8.5, standoff -3, extent 21.59,-1.27 24.13,3.81
3D body: height 8.5, standoff -3, extent 13.97,-1.27 16.51,3.81
3D body: height 8.5, standoff -3, extent 11.43,-1.27 13.97,3.81
3D body: height 8.5, standoff -3, extent 19.05,-1.27 21.59,3.81
3D body: height 8.5, standoff -3, extent 16.51,-1.27 19.05,3.81
3D body: height 8.5, standoff -3, extent 34.29,-1.27 36.83,3.81
3D body: height 8.5, standoff -3, extent 26.67,-1.27 29.21,3.81
3D body: height 8.5, standoff -3, extent 24.13,-1.27 26.67,3.81
3D body: height 8.5, standoff -3, extent 31.75,-1.27 34.29,3.81
3D body: height 8.5, standoff -3, extent 29.21,-1.27 31.75,3.81
3D body: height 8.5, standoff -3, extent 39.37,-1.27 41.91,3.81
3D body: height 8.5, standoff -3, extent 36.83,-1.27 39.37,3.81

## HDR-17X2_H [mm] "双排弯脚排针，17x2脚"
pads (34):
  rect 1.6x1.6 hole 0.9: 1(0,0)
  round 1.6 hole 0.9: 2(0,2.54) 3(2.54,0) 4(2.54,2.54) 5(5.08,0) 6(5.08,2.54) 7(7.62,0) 8(7.62,2.54) 9(10.16,0) 10(10.16,2.54) 11(12.7,0) 12(12.7,2.54) 13(15.24,0) 14(15.24,2.54) 15(17.78,0) 16(17.78,2.54) 17(20.32,0) 18(20.32,2.54) 19(22.86,0) 20(22.86,2.54) 21(25.4,0) 22(25.4,2.54) 23(27.94,0) 24(27.94,2.54) 25(30.48,0) 26(30.48,2.54) 27(33.02,0) 28(33.02,2.54) 29(35.56,0) 30(35.56,2.54) 31(38.1,0) 32(38.1,2.54) 33(40.64,0) 34(40.64,2.54)
Top Overlay:
  lines w0.2: -1.27,-1.905 -0.635,-1.27 ; -0.348,-9.364 0.075,-9.787 0.499,-9.364 0.508,-9.355 0.508,-3.556 ; -0.339,-9.364 -0.339,-3.556 ; 2.192,-9.364 2.615,-9.787 3.039,-9.364 ; 2.201,-9.364 2.201,-3.556 ; 3.048,-9.364 3.048,-3.556 ; 4.732,-9.364 5.155,-9.787 5.579,-9.364 ; 4.741,-9.364 4.741,-3.556 ; 5.588,-9.364 5.588,-3.556 ; 7.272,-9.364 7.695,-9.787 8.119,-9.364 ; 7.281,-9.364 7.281,-3.556 ; 8.128,-9.364 8.128,-3.556 ; 9.812,-9.364 10.235,-9.787 10.659,-9.364 ; 9.821,-9.364 9.821,-3.556 ; 10.668,-9.364 10.668,-3.556 ; 12.352,-9.364 12.775,-9.787 13.199,-9.364 ; 12.361,-9.364 12.361,-3.556 ; 13.208,-9.364 13.208,-3.556 ; 14.892,-9.364 15.315,-9.787 15.739,-9.364 ; 14.901,-9.364 14.901,-3.556 ; 15.748,-9.364 15.748,-3.556 ; 17.432,-9.364 17.855,-9.787 18.279,-9.364 ; 17.441,-9.364 17.441,-3.556 ; 18.288,-9.364 18.288,-3.556 ; 19.972,-9.364 20.395,-9.787 20.819,-9.364 ; 19.981,-9.364 19.981,-3.556 ; 20.828,-9.364 20.828,-3.556 ; 22.512,-9.364 22.935,-9.787 23.359,-9.364 ; 22.521,-9.364 22.521,-3.556 ; 23.368,-9.364 23.368,-3.556 ; 25.052,-9.364 25.475,-9.787 25.899,-9.364 ; 25.061,-9.364 25.061,-3.556 ; 25.908,-9.364 25.908,-3.556 ; 27.592,-9.364 28.015,-9.787 28.439,-9.364 ; 27.601,-9.364 27.601,-3.556 ; 28.448,-9.364 28.448,-3.556 ; 30.132,-9.364 30.555,-9.787 30.979,-9.364 ; 30.141,-9.364 30.141,-3.556 ; 30.988,-9.364 30.988,-3.556 ; 32.672,-9.364 33.095,-9.787 33.519,-9.364 ; 32.681,-9.364 32.681,-3.556 ; 33.528,-9.364 33.528,-3.556 ; 35.212,-9.364 35.635,-9.787 36.059,-9.364 ; 35.221,-9.364 35.221,-3.556 ; 36.068,-9.364 36.068,-3.556 ; 37.752,-9.364 38.175,-9.787 38.599,-9.364 ; 37.761,-9.364 37.761,-3.556 ; 38.608,-9.364 38.608,-3.556 ; 40.292,-9.364 40.715,-9.787 41.139,-9.364 ; 40.301,-9.364 40.301,-3.556 ; 41.148,-9.364 41.148,-3.556 ; -1.27,-3.556 41.91,-3.556 41.91,-1.27 -1.27,-1.27 -1.27,-3.556
  lines w0.254: -0.762,1.27 41.402,1.27 ; 1.27,0 1.27,2.54 ; 3.81,0 3.81,2.54 ; 6.35,0 6.35,2.54 ; 8.89,0 8.89,2.54 ; 11.43,0 11.43,2.54 ; 13.97,0 13.97,2.54 ; 16.51,0 16.51,2.54 ; 19.05,0 19.05,2.54 ; 21.59,0 21.59,2.54 ; 24.13,0 24.13,2.54 ; 26.67,0 26.67,2.54 ; 29.21,0 29.21,2.54 ; 31.75,0 31.75,2.54 ; 36.83,0 36.83,2.54 ; 39.37,0 39.37,2.54 ; 34.29,0 34.29,2.54 34.29,0
  text "2" at -2.54,2.032 h1.02
  text "1" at -2.286,-0.508 h1.02
  text "33" at 42.164,-0.508 h1.02
  text "34" at 42.164,2.032 h1.02
Bottom Overlay:
  lines w0.254: -0.762,1.27 41.402,1.27 ; 1.27,0 1.27,2.54 ; 3.81,0 3.81,2.54 ; 6.35,0 6.35,2.54 ; 8.89,0 8.89,2.54 ; 11.43,0 11.43,2.54 ; 13.97,0 13.97,2.54 ; 16.51,0 16.51,2.54 ; 19.05,0 19.05,2.54 ; 21.59,0 21.59,2.54 ; 24.13,0 24.13,2.54 ; 26.67,0 26.67,2.54 ; 29.21,0 29.21,2.54 ; 31.75,0 31.75,2.54 ; 36.83,0 36.83,2.54 ; 39.37,0 39.37,2.54 ; 34.29,0 34.29,2.54 34.29,0
3D body: height 5.1, standoff -3, extent 39.37,-9.96 41.91,2.89
3D body: height 5.1, standoff -3, extent 36.83,-9.96 39.37,2.89
3D body: height 5.1, standoff -3, extent 26.67,-9.96 29.21,2.89
3D body: height 5.1, standoff -3, extent 24.13,-9.96 26.67,2.89
3D body: height 5.1, standoff -3, extent 31.75,-9.96 34.29,2.89
3D body: height 5.1, standoff -3, extent 29.21,-9.96 31.75,2.89
3D body: height 5.1, standoff -3, extent 34.29,-9.96 36.83,2.89
3D body: height 5.1, standoff -3, extent 13.97,-9.96 16.51,2.89
3D body: height 5.1, standoff -3, extent 11.43,-9.96 13.97,2.89
3D body: height 5.1, standoff -3, extent 19.05,-9.96 21.59,2.89
3D body: height 5.1, standoff -3, extent 16.51,-9.96 19.05,2.89
3D body: height 5.1, standoff -3, extent 21.59,-9.96 24.13,2.89
3D body: height 5.1, standoff -3, extent 1.27,-9.96 3.81,2.89
3D body: height 5.1, standoff -3, extent -1.27,-9.96 1.27,2.89
3D body: height 5.1, standoff -3, extent 6.35,-9.96 8.89,2.89
3D body: height 5.1, standoff -3, extent 3.81,-9.96 6.35,2.89
3D body: height 5.1, standoff -3, extent 8.89,-9.96 11.43,2.89

## HDR-18X2 [mm] "双排排针，18x2脚"
pads (36):
  rect 1.6x1.6 hole 0.9: 1(0,0)
  round 1.6 hole 0.9: 2(0,2.54) 3(2.54,0) 4(2.54,2.54) 5(5.08,0) 6(5.08,2.54) 7(7.62,0) 8(7.62,2.54) 9(10.16,0) 10(10.16,2.54) 11(12.7,0) 12(12.7,2.54) 13(15.24,0) 14(15.24,2.54) 15(17.78,0) 16(17.78,2.54) 17(20.32,0) 18(20.32,2.54) 19(22.86,0) 20(22.86,2.54) 21(25.4,0) 22(25.4,2.54) 23(27.94,0) 24(27.94,2.54) 25(30.48,0) 26(30.48,2.54) 27(33.02,0) 28(33.02,2.54) 29(35.56,0) 30(35.56,2.54) 31(38.1,0) 32(38.1,2.54) 33(40.64,0) 34(40.64,2.54) 35(43.18,0) 36(43.18,2.54)
Top Overlay:
  lines w0.2: 3.81,-1.27 -1.27,-1.27 ; -1.27,-1.27 44.45,-1.27 44.45,3.81 -1.27,3.81 -1.27,-1.27
  text "36" at 44.704,2.032 h1.02
  text "35" at 44.704,-0.508 h1.02
  text "1" at -2.032,-0.508 h1.02
  text "2" at -2.54,2.032 h1.02
3D body: height 8.5, standoff -3, extent 8.89,-1.27 11.43,3.81
3D body: height 8.5, standoff -3, extent 1.27,-1.27 3.81,3.81
3D body: height 8.5, standoff -3, extent -1.27,-1.27 1.27,3.81
3D body: height 8.5, standoff -3, extent 6.35,-1.27 8.89,3.81
3D body: height 8.5, standoff -3, extent 3.81,-1.27 6.35,3.81
3D body: height 8.5, standoff -3, extent 21.59,-1.27 24.13,3.81
3D body: height 8.5, standoff -3, extent 13.97,-1.27 16.51,3.81
3D body: height 8.5, standoff -3, extent 11.43,-1.27 13.97,3.81
3D body: height 8.5, standoff -3, extent 19.05,-1.27 21.59,3.81
3D body: height 8.5, standoff -3, extent 16.51,-1.27 19.05,3.81
3D body: height 8.5, standoff -3, extent 34.29,-1.27 36.83,3.81
3D body: height 8.5, standoff -3, extent 26.67,-1.27 29.21,3.81
3D body: height 8.5, standoff -3, extent 24.13,-1.27 26.67,3.81
3D body: height 8.5, standoff -3, extent 31.75,-1.27 34.29,3.81
3D body: height 8.5, standoff -3, extent 29.21,-1.27 31.75,3.81
3D body: height 8.5, standoff -3, extent 39.37,-1.27 41.91,3.81
3D body: height 8.5, standoff -3, extent 36.83,-1.27 39.37,3.81
3D body: height 8.5, standoff -3, extent 41.91,-1.27 44.45,3.81

## HDR-18X2_H [mm] "双排弯脚排针，18x2脚"
pads (36):
  rect 1.6x1.6 hole 0.9: 1(0,0)
  round 1.6 hole 0.9: 2(0,2.54) 3(2.54,0) 4(2.54,2.54) 5(5.08,0) 6(5.08,2.54) 7(7.62,0) 8(7.62,2.54) 9(10.16,0) 10(10.16,2.54) 11(12.7,0) 12(12.7,2.54) 13(15.24,0) 14(15.24,2.54) 15(17.78,0) 16(17.78,2.54) 17(20.32,0) 18(20.32,2.54) 19(22.86,0) 20(22.86,2.54) 21(25.4,0) 22(25.4,2.54) 23(27.94,0) 24(27.94,2.54) 25(30.48,0) 26(30.48,2.54) 27(33.02,0) 28(33.02,2.54) 29(35.56,0) 30(35.56,2.54) 31(38.1,0) 32(38.1,2.54) 33(40.64,0) 34(40.64,2.54) 35(43.18,0) 36(43.18,2.54)
Top Overlay:
  lines w0.2: -1.27,-1.905 -0.635,-1.27 ; -0.348,-9.364 0.075,-9.787 0.499,-9.364 0.508,-9.355 0.508,-3.556 ; -0.339,-9.364 -0.339,-3.556 ; 2.192,-9.364 2.615,-9.787 3.039,-9.364 ; 2.201,-9.364 2.201,-3.556 ; 3.048,-9.364 3.048,-3.556 ; 4.732,-9.364 5.155,-9.787 5.579,-9.364 ; 4.741,-9.364 4.741,-3.556 ; 5.588,-9.364 5.588,-3.556 ; 7.272,-9.364 7.695,-9.787 8.119,-9.364 ; 7.281,-9.364 7.281,-3.556 ; 8.128,-9.364 8.128,-3.556 ; 9.812,-9.364 10.235,-9.787 10.659,-9.364 ; 9.821,-9.364 9.821,-3.556 ; 10.668,-9.364 10.668,-3.556 ; 12.352,-9.364 12.775,-9.787 13.199,-9.364 ; 12.361,-9.364 12.361,-3.556 ; 13.208,-9.364 13.208,-3.556 ; 14.892,-9.364 15.315,-9.787 15.739,-9.364 ; 14.901,-9.364 14.901,-3.556 ; 15.748,-9.364 15.748,-3.556 ; 17.432,-9.364 17.855,-9.787 18.279,-9.364 ; 17.441,-9.364 17.441,-3.556 ; 18.288,-9.364 18.288,-3.556 ; 19.972,-9.364 20.395,-9.787 20.819,-9.364 ; 19.981,-9.364 19.981,-3.556 ; 20.828,-9.364 20.828,-3.556 ; 22.512,-9.364 22.935,-9.787 23.359,-9.364 ; 22.521,-9.364 22.521,-3.556 ; 23.368,-9.364 23.368,-3.556 ; 25.052,-9.364 25.475,-9.787 25.899,-9.364 ; 25.061,-9.364 25.061,-3.556 ; 25.908,-9.364 25.908,-3.556 ; 27.592,-9.364 28.015,-9.787 28.439,-9.364 ; 27.601,-9.364 27.601,-3.556 ; 28.448,-9.364 28.448,-3.556 ; 30.132,-9.364 30.555,-9.787 30.979,-9.364 ; 30.141,-9.364 30.141,-3.556 ; 30.988,-9.364 30.988,-3.556 ; 32.672,-9.364 33.095,-9.787 33.519,-9.364 ; 32.681,-9.364 32.681,-3.556 ; 33.528,-9.364 33.528,-3.556 ; 35.212,-9.364 35.635,-9.787 36.059,-9.364 ; 35.221,-9.364 35.221,-3.556 ; 36.068,-9.364 36.068,-3.556 ; 37.752,-9.364 38.175,-9.787 38.599,-9.364 ; 37.761,-9.364 37.761,-3.556 ; 38.608,-9.364 38.608,-3.556 ; 40.292,-9.364 40.715,-9.787 41.139,-9.364 ; 40.301,-9.364 40.301,-3.556 ; 41.148,-9.364 41.148,-3.556 ; 42.832,-9.364 43.255,-9.787 43.679,-9.364 ; 42.841,-9.364 42.841,-3.556 ; 43.688,-9.364 43.688,-3.556 ; -1.27,-3.556 -1.27,-1.27 44.45,-1.27 44.45,-3.556 -1.27,-3.556
  lines w0.254: -0.762,1.27 43.942,1.27 ; 1.27,0 1.27,2.54 ; 3.81,0 3.81,2.54 ; 6.35,0 6.35,2.54 ; 8.89,0 8.89,2.54 ; 11.43,0 11.43,2.54 ; 13.97,0 13.97,2.54 ; 16.51,0 16.51,2.54 ; 19.05,0 19.05,2.54 ; 21.59,0 21.59,2.54 ; 24.13,0 24.13,2.54 ; 26.67,0 26.67,2.54 ; 29.21,0 29.21,2.54 ; 31.75,0 31.75,2.54 ; 36.83,0 36.83,2.54 ; 39.37,0 39.37,2.54 ; 34.29,0 34.29,2.54 34.29,0 ; 41.91,0 41.91,2.54 41.91,0
  text "36" at 44.704,2.032 h1.02
  text "35" at 44.704,-0.508 h1.02
  text "1" at -2.286,-0.508 h1.02
  text "2" at -2.54,2.032 h1.02
Bottom Overlay:
  lines w0.254: -0.762,1.27 43.942,1.27 ; 1.27,0 1.27,2.54 ; 3.81,0 3.81,2.54 ; 6.35,0 6.35,2.54 ; 8.89,0 8.89,2.54 ; 11.43,0 11.43,2.54 ; 13.97,0 13.97,2.54 ; 16.51,0 16.51,2.54 ; 19.05,0 19.05,2.54 ; 21.59,0 21.59,2.54 ; 24.13,0 24.13,2.54 ; 26.67,0 26.67,2.54 ; 29.21,0 29.21,2.54 ; 31.75,0 31.75,2.54 ; 36.83,0 36.83,2.54 ; 39.37,0 39.37,2.54 ; 34.29,0 34.29,2.54 34.29,0 ; 41.91,0 41.91,2.54 41.91,0
3D body: height 5.1, standoff -3, extent 8.89,-9.96 11.43,2.89
3D body: height 5.1, standoff -3, extent 3.81,-9.96 6.35,2.89
3D body: height 5.1, standoff -3, extent 6.35,-9.96 8.89,2.89
3D body: height 5.1, standoff -3, extent -1.27,-9.96 1.27,2.89
3D body: height 5.1, standoff -3, extent 1.27,-9.96 3.81,2.89
3D body: height 5.1, standoff -3, extent 21.59,-9.96 24.13,2.89
3D body: height 5.1, standoff -3, extent 16.51,-9.96 19.05,2.89
3D body: height 5.1, standoff -3, extent 19.05,-9.96 21.59,2.89
3D body: height 5.1, standoff -3, extent 11.43,-9.96 13.97,2.89
3D body: height 5.1, standoff -3, extent 13.97,-9.96 16.51,2.89
3D body: height 5.1, standoff -3, extent 34.29,-9.96 36.83,2.89
3D body: height 5.1, standoff -3, extent 29.21,-9.96 31.75,2.89
3D body: height 5.1, standoff -3, extent 31.75,-9.96 34.29,2.89
3D body: height 5.1, standoff -3, extent 24.13,-9.96 26.67,2.89
3D body: height 5.1, standoff -3, extent 26.67,-9.96 29.21,2.89
3D body: height 5.1, standoff -3, extent 41.91,-9.96 44.45,2.89
3D body: height 5.1, standoff -3, extent 36.83,-9.96 39.37,2.89
3D body: height 5.1, standoff -3, extent 39.37,-9.96 41.91,2.89

## HDR-19X2 [mm] "双排排针，19x2脚"
pads (38):
  rect 1.6x1.6 hole 0.9: 1(0,0)
  round 1.6 hole 0.9: 2(0,2.54) 3(2.54,0) 4(2.54,2.54) 5(5.08,0) 6(5.08,2.54) 7(7.62,0) 8(7.62,2.54) 9(10.16,0) 10(10.16,2.54) 11(12.7,0) 12(12.7,2.54) 13(15.24,0) 14(15.24,2.54) 15(17.78,0) 16(17.78,2.54) 17(20.32,0) 18(20.32,2.54) 19(22.86,0) 20(22.86,2.54) 21(25.4,0) 22(25.4,2.54) 23(27.94,0) 24(27.94,2.54) 25(30.48,0) 26(30.48,2.54) 27(33.02,0) 28(33.02,2.54) 29(35.56,0) 30(35.56,2.54) 31(38.1,0) 32(38.1,2.54) 33(40.64,0) 34(40.64,2.54) 35(43.18,0) 36(43.18,2.54) 37(45.72,0) 38(45.72,2.54)
Top Overlay:
  lines w0.2: -1.27,-1.27 -1.27,3.81 46.99,3.81 46.99,-1.27 -1.27,-1.27
  text "38" at 47.244,2.032 h1.02
  text "37" at 47.244,-0.508 h1.02
  text "1" at -2.286,-0.508 h1.02
  text "2" at -2.54,2.032 h1.02
3D body: height 8.5, standoff -3, extent 8.89,-1.27 11.43,3.81
3D body: height 8.5, standoff -3, extent 1.27,-1.27 3.81,3.81
3D body: height 8.5, standoff -3, extent -1.27,-1.27 1.27,3.81
3D body: height 8.5, standoff -3, extent 6.35,-1.27 8.89,3.81
3D body: height 8.5, standoff -3, extent 3.81,-1.27 6.35,3.81
3D body: height 8.5, standoff -3, extent 21.59,-1.27 24.13,3.81
3D body: height 8.5, standoff -3, extent 13.97,-1.27 16.51,3.81
3D body: height 8.5, standoff -3, extent 11.43,-1.27 13.97,3.81
3D body: height 8.5, standoff -3, extent 19.05,-1.27 21.59,3.81
3D body: height 8.5, standoff -3, extent 16.51,-1.27 19.05,3.81
3D body: height 8.5, standoff -3, extent 34.29,-1.27 36.83,3.81
3D body: height 8.5, standoff -3, extent 26.67,-1.27 29.21,3.81
3D body: height 8.5, standoff -3, extent 24.13,-1.27 26.67,3.81
3D body: height 8.5, standoff -3, extent 31.75,-1.27 34.29,3.81
3D body: height 8.5, standoff -3, extent 29.21,-1.27 31.75,3.81
3D body: height 8.5, standoff -3, extent 39.37,-1.27 41.91,3.81
3D body: height 8.5, standoff -3, extent 36.83,-1.27 39.37,3.81
3D body: height 8.5, standoff -3, extent 44.45,-1.27 46.99,3.81
3D body: height 8.5, standoff -3, extent 41.91,-1.27 44.45,3.81

## HDR-19X2_H [mm] "双排弯脚排针，19x2脚"
pads (38):
  rect 1.6x1.6 hole 0.9: 1(0,0)
  round 1.6 hole 0.9: 2(0,2.54) 3(2.54,0) 4(2.54,2.54) 5(5.08,0) 6(5.08,2.54) 7(7.62,0) 8(7.62,2.54) 9(10.16,0) 10(10.16,2.54) 11(12.7,0) 12(12.7,2.54) 13(15.24,0) 14(15.24,2.54) 15(17.78,0) 16(17.78,2.54) 17(20.32,0) 18(20.32,2.54) 19(22.86,0) 20(22.86,2.54) 21(25.4,0) 22(25.4,2.54) 23(27.94,0) 24(27.94,2.54) 25(30.48,0) 26(30.48,2.54) 27(33.02,0) 28(33.02,2.54) 29(35.56,0) 30(35.56,2.54) 31(38.1,0) 32(38.1,2.54) 33(40.64,0) 34(40.64,2.54) 35(43.18,0) 36(43.18,2.54) 37(45.72,0) 38(45.72,2.54)
Top Overlay:
  lines w0.2: -1.27,-1.905 -0.635,-1.27 ; -0.348,-9.364 0.075,-9.787 0.499,-9.364 0.508,-9.355 0.508,-3.556 ; -0.339,-9.364 -0.339,-3.556 ; 2.192,-9.364 2.615,-9.787 3.039,-9.364 ; 2.201,-9.364 2.201,-3.556 ; 3.048,-9.364 3.048,-3.556 ; 4.732,-9.364 5.155,-9.787 5.579,-9.364 ; 4.741,-9.364 4.741,-3.556 ; 5.588,-9.364 5.588,-3.556 ; 7.272,-9.364 7.695,-9.787 8.119,-9.364 ; 7.281,-9.364 7.281,-3.556 ; 8.128,-9.364 8.128,-3.556 ; 9.812,-9.364 10.235,-9.787 10.659,-9.364 ; 9.821,-9.364 9.821,-3.556 ; 10.668,-9.364 10.668,-3.556 ; 12.352,-9.364 12.775,-9.787 13.199,-9.364 ; 12.361,-9.364 12.361,-3.556 ; 13.208,-9.364 13.208,-3.556 ; 14.892,-9.364 15.315,-9.787 15.739,-9.364 ; 14.901,-9.364 14.901,-3.556 ; 15.748,-9.364 15.748,-3.556 ; 17.432,-9.364 17.855,-9.787 18.279,-9.364 ; 17.441,-9.364 17.441,-3.556 ; 18.288,-9.364 18.288,-3.556 ; 19.972,-9.364 20.395,-9.787 20.819,-9.364 ; 19.981,-9.364 19.981,-3.556 ; 20.828,-9.364 20.828,-3.556 ; 22.512,-9.364 22.935,-9.787 23.359,-9.364 ; 22.521,-9.364 22.521,-3.556 ; 23.368,-9.364 23.368,-3.556 ; 25.052,-9.364 25.475,-9.787 25.899,-9.364 ; 25.061,-9.364 25.061,-3.556 ; 25.908,-9.364 25.908,-3.556 ; 27.592,-9.364 28.015,-9.787 28.439,-9.364 ; 27.601,-9.364 27.601,-3.556 ; 28.448,-9.364 28.448,-3.556 ; 30.132,-9.364 30.555,-9.787 30.979,-9.364 ; 30.141,-9.364 30.141,-3.556 ; 30.988,-9.364 30.988,-3.556 ; 32.672,-9.364 33.095,-9.787 33.519,-9.364 ; 32.681,-9.364 32.681,-3.556 ; 33.528,-9.364 33.528,-3.556 ; 35.212,-9.364 35.635,-9.787 36.059,-9.364 ; 35.221,-9.364 35.221,-3.556 ; 36.068,-9.364 36.068,-3.556 ; 37.752,-9.364 38.175,-9.787 38.599,-9.364 ; 37.761,-9.364 37.761,-3.556 ; 38.608,-9.364 38.608,-3.556 ; 40.292,-9.364 40.715,-9.787 41.139,-9.364 ; 40.301,-9.364 40.301,-3.556 ; 41.148,-9.364 41.148,-3.556 ; 42.832,-9.364 43.255,-9.787 43.679,-9.364 ; 42.841,-9.364 42.841,-3.556 ; 43.688,-9.364 43.688,-3.556 ; 45.372,-9.364 45.795,-9.787 46.219,-9.364 ; 45.381,-9.364 45.381,-3.556 ; 46.228,-9.364 46.228,-3.556 ; -1.27,-3.556 46.99,-3.556 46.99,-1.27 -1.27,-1.27 -1.27,-3.556
  lines w0.254: -0.762,1.27 46.736,1.27 ; 1.27,0 1.27,2.54 ; 3.81,0 3.81,2.54 ; 6.35,0 6.35,2.54 ; 8.89,0 8.89,2.54 ; 11.43,0 11.43,2.54 ; 13.97,0 13.97,2.54 ; 16.51,0 16.51,2.54 ; 19.05,0 19.05,2.54 ; 21.59,0 21.59,2.54 ; 24.13,0 24.13,2.54 ; 26.67,0 26.67,2.54 ; 29.21,0 29.21,2.54 ; 31.75,0 31.75,2.54 ; 36.83,0 36.83,2.54 ; 39.37,0 39.37,2.54 ; 44.45,0 44.45,2.54 ; 34.29,0 34.29,2.54 34.29,0 ; 41.91,0 41.91,2.54 41.91,0
  text "2" at -2.54,2.032 h1.02
  text "1" at -2.286,-0.508 h1.02
  text "37" at 47.244,-0.508 h1.02
  text "38" at 47.244,2.032 h1.02
Bottom Overlay:
  lines w0.254: -0.762,1.27 46.736,1.27 ; 1.27,0 1.27,2.54 ; 3.81,0 3.81,2.54 ; 6.35,0 6.35,2.54 ; 8.89,0 8.89,2.54 ; 11.43,0 11.43,2.54 ; 13.97,0 13.97,2.54 ; 16.51,0 16.51,2.54 ; 19.05,0 19.05,2.54 ; 21.59,0 21.59,2.54 ; 24.13,0 24.13,2.54 ; 26.67,0 26.67,2.54 ; 29.21,0 29.21,2.54 ; 31.75,0 31.75,2.54 ; 36.83,0 36.83,2.54 ; 39.37,0 39.37,2.54 ; 44.45,0 44.45,2.54 ; 34.29,0 34.29,2.54 34.29,0 ; 41.91,0 41.91,2.54 41.91,0
3D body: height 5.1, standoff -3, extent 39.37,-9.96 41.91,2.89
3D body: height 5.1, standoff -3, extent 36.83,-9.96 39.37,2.89
3D body: height 5.1, standoff -3, extent 44.45,-9.96 46.99,2.89
3D body: height 5.1, standoff -3, extent 41.91,-9.96 44.45,2.89
3D body: height 5.1, standoff -3, extent 26.67,-9.96 29.21,2.89
3D body: height 5.1, standoff -3, extent 24.13,-9.96 26.67,2.89
3D body: height 5.1, standoff -3, extent 31.75,-9.96 34.29,2.89
3D body: height 5.1, standoff -3, extent 29.21,-9.96 31.75,2.89
3D body: height 5.1, standoff -3, extent 34.29,-9.96 36.83,2.89
3D body: height 5.1, standoff -3, extent 13.97,-9.96 16.51,2.89
3D body: height 5.1, standoff -3, extent 11.43,-9.96 13.97,2.89
3D body: height 5.1, standoff -3, extent 19.05,-9.96 21.59,2.89
3D body: height 5.1, standoff -3, extent 16.51,-9.96 19.05,2.89
3D body: height 5.1, standoff -3, extent 21.59,-9.96 24.13,2.89
3D body: height 5.1, standoff -3, extent 1.27,-9.96 3.81,2.89
3D body: height 5.1, standoff -3, extent -1.27,-9.96 1.27,2.89
3D body: height 5.1, standoff -3, extent 6.35,-9.96 8.89,2.89
3D body: height 5.1, standoff -3, extent 3.81,-9.96 6.35,2.89
3D body: height 5.1, standoff -3, extent 8.89,-9.96 11.43,2.89

## HDR-20X2 [mm] "双排排针，20x2脚"
pads (40):
  rect 1.6x1.6 hole 0.9: 1(0,0)
  round 1.6 hole 0.9: 2(0,2.54) 3(2.54,0) 4(2.54,2.54) 5(5.08,0) 6(5.08,2.54) 7(7.62,0) 8(7.62,2.54) 9(10.16,0) 10(10.16,2.54) 11(12.7,0) 12(12.7,2.54) 13(15.24,0) 14(15.24,2.54) 15(17.78,0) 16(17.78,2.54) 17(20.32,0) 18(20.32,2.54) 19(22.86,0) 20(22.86,2.54) 21(25.4,0) 22(25.4,2.54) 23(27.94,0) 24(27.94,2.54) 25(30.48,0) 26(30.48,2.54) 27(33.02,0) 28(33.02,2.54) 29(35.56,0) 30(35.56,2.54) 31(38.1,0) 32(38.1,2.54) 33(40.64,0) 34(40.64,2.54) 35(43.18,0) 36(43.18,2.54) 37(45.72,0) 38(45.72,2.54) 39(48.26,0) 40(48.26,2.54)
Top Overlay:
  lines w0.2: -1.27,-1.27 49.53,-1.27 49.53,3.81 -1.27,3.81 -1.27,-1.27
  text "1" at -2.286,-0.508 h1.02
  text "2" at -2.54,2.032 h1.02
  text "40" at 50.038,2.032 h1.02
  text "39" at 50.038,-0.508 h1.02
3D body: height 8.5, standoff -3, extent 41.91,-1.27 44.45,3.81
3D body: height 8.5, standoff -3, extent 44.45,-1.27 46.99,3.81
3D body: height 8.5, standoff -3, extent 36.83,-1.27 39.37,3.81
3D body: height 8.5, standoff -3, extent 39.37,-1.27 41.91,3.81
3D body: height 8.5, standoff -3, extent 46.99,-1.27 49.53,3.81
3D body: height 8.5, standoff -3, extent 29.21,-1.27 31.75,3.81
3D body: height 8.5, standoff -3, extent 31.75,-1.27 34.29,3.81
3D body: height 8.5, standoff -3, extent 24.13,-1.27 26.67,3.81
3D body: height 8.5, standoff -3, extent 26.67,-1.27 29.21,3.81
3D body: height 8.5, standoff -3, extent 34.29,-1.27 36.83,3.81
3D body: height 8.5, standoff -3, extent 16.51,-1.27 19.05,3.81
3D body: height 8.5, standoff -3, extent 19.05,-1.27 21.59,3.81
3D body: height 8.5, standoff -3, extent 11.43,-1.27 13.97,3.81
3D body: height 8.5, standoff -3, extent 13.97,-1.27 16.51,3.81
3D body: height 8.5, standoff -3, extent 21.59,-1.27 24.13,3.81
3D body: height 8.5, standoff -3, extent 3.81,-1.27 6.35,3.81
3D body: height 8.5, standoff -3, extent 6.35,-1.27 8.89,3.81
3D body: height 8.5, standoff -3, extent -1.27,-1.27 1.27,3.81
3D body: height 8.5, standoff -3, extent 1.27,-1.27 3.81,3.81
3D body: height 8.5, standoff -3, extent 8.89,-1.27 11.43,3.81